# EAGLE library part LTM4622 (library linear-technology)
DC DC CONVERTER 0.6-5.5V 2.5A
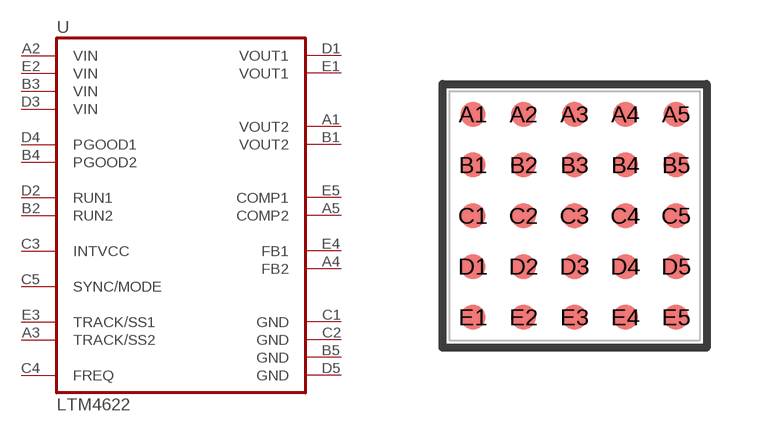
[diagram p65: symbol with the pads of BGA25; footprint BGA25]

Designator prefix U

## LTM4622Y  [BGA25]
A1  VOUT2  pas
A2  VIN  in
A3  TRACK/SS2  pas
A4  FB2  in
A5  COMP2  pas
B1  VOUT2  pas
B2  RUN2  in
B3  VIN  in
B4  PGOOD2  pas
B5  GND  in
C1  GND  in
C2  GND  in
C3  INTVCC  out
C4  FREQ  pas
C5  SYNC/MODE  pas
D1  VOUT1  pas
D2  RUN1  in
D3  VIN  in
D4  PGOOD1  pas
D5  GND  in
E1  VOUT1  pas
E2  VIN  in
E3  TRACK/SS1  pas
E4  FB1  in
E5  COMP1  pas

## Footprint BGA25 (pad centres in mm)
BGA25 25-Lead (6.25mm × 6.25mm × 2.42mm) Reference LTC DWG # 05-08-1502
smd 0.63 x 0.63: A1 -2.54,2.54; A2 -1.27,2.54; A3 0,2.54; A4 1.27,2.54; A5 2.54,2.54; B1 -2.54,1.27; B2 -1.27,1.27; B3 0,1.27; B4 1.27,1.27; B5 2.54,1.27; C1 -2.54,0; C2 -1.27,0; C3 0,0; C4 1.27,0; C5 2.54,0; D1 -2.54,-1.27; D2 -1.27,-1.27; D3 0,-1.27; D4 1.27,-1.27; D5 2.54,-1.27; E1 -2.54,-2.54; E2 -1.27,-2.54; E3 0,-2.54; E4 1.27,-2.54; E5 2.54,-2.54